# Altium integrated library 74LS00D.IntLib: 1 symbol
Pins are listed as number, name and electrical type; pins without a type are passive.

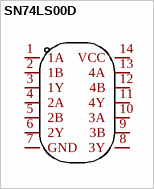
[diagram p0: symbol SN74LS00D]

## SN74LS00D
designator U??  (value not drawn)
Manufacturer: TI(德州仪器); Add into BOM: yes; Name: SN74LS00D; Symbol: SN74LS00D; Device: SN74LS00D; LCSC Part Name: SN74LS00D; Supplier Part: C2872907; Manufacturer Part: SN74LS00D; Supplier Footprint: SOIC-14; JLCPCB Part Class: Extended Part; Datasheet: https://atta.szlcsc.com/upload/public/pdf/source/20230221/2481733E2F3EBD7DE0CC3CA8D850DB3A.pdf; Supplier: LCSC; Convert to PCB: yes
footprint SOIC-14_L8.7-W3.9-P1.27-LS6.0-BL
3D model SOIC-14_L8.6-W3.9-H1.8-LS6.0-P1.27
pins: 1 1A, 2 1B, 3 1Y, 4 2A, 5 2B, 6 2Y, 7 GND, 8 3Y, 9 3B, 10 3A, 11 4Y, 12 4B, 13 4A, 14 VCC